# Altium footprint library Supernova Resistors.PcbLib: 45 footprints (part 2 of 3)
Each footprint in its own frame and in the unit in brackets; x right, y up, seen from the top. Pads: shape width x height; smd on the part's side, far side on the other; paste and mask are expansions set on the pad; w line width, h text height; cw(c..) or ccw(c..) is an arc to the next point about the centre after c.
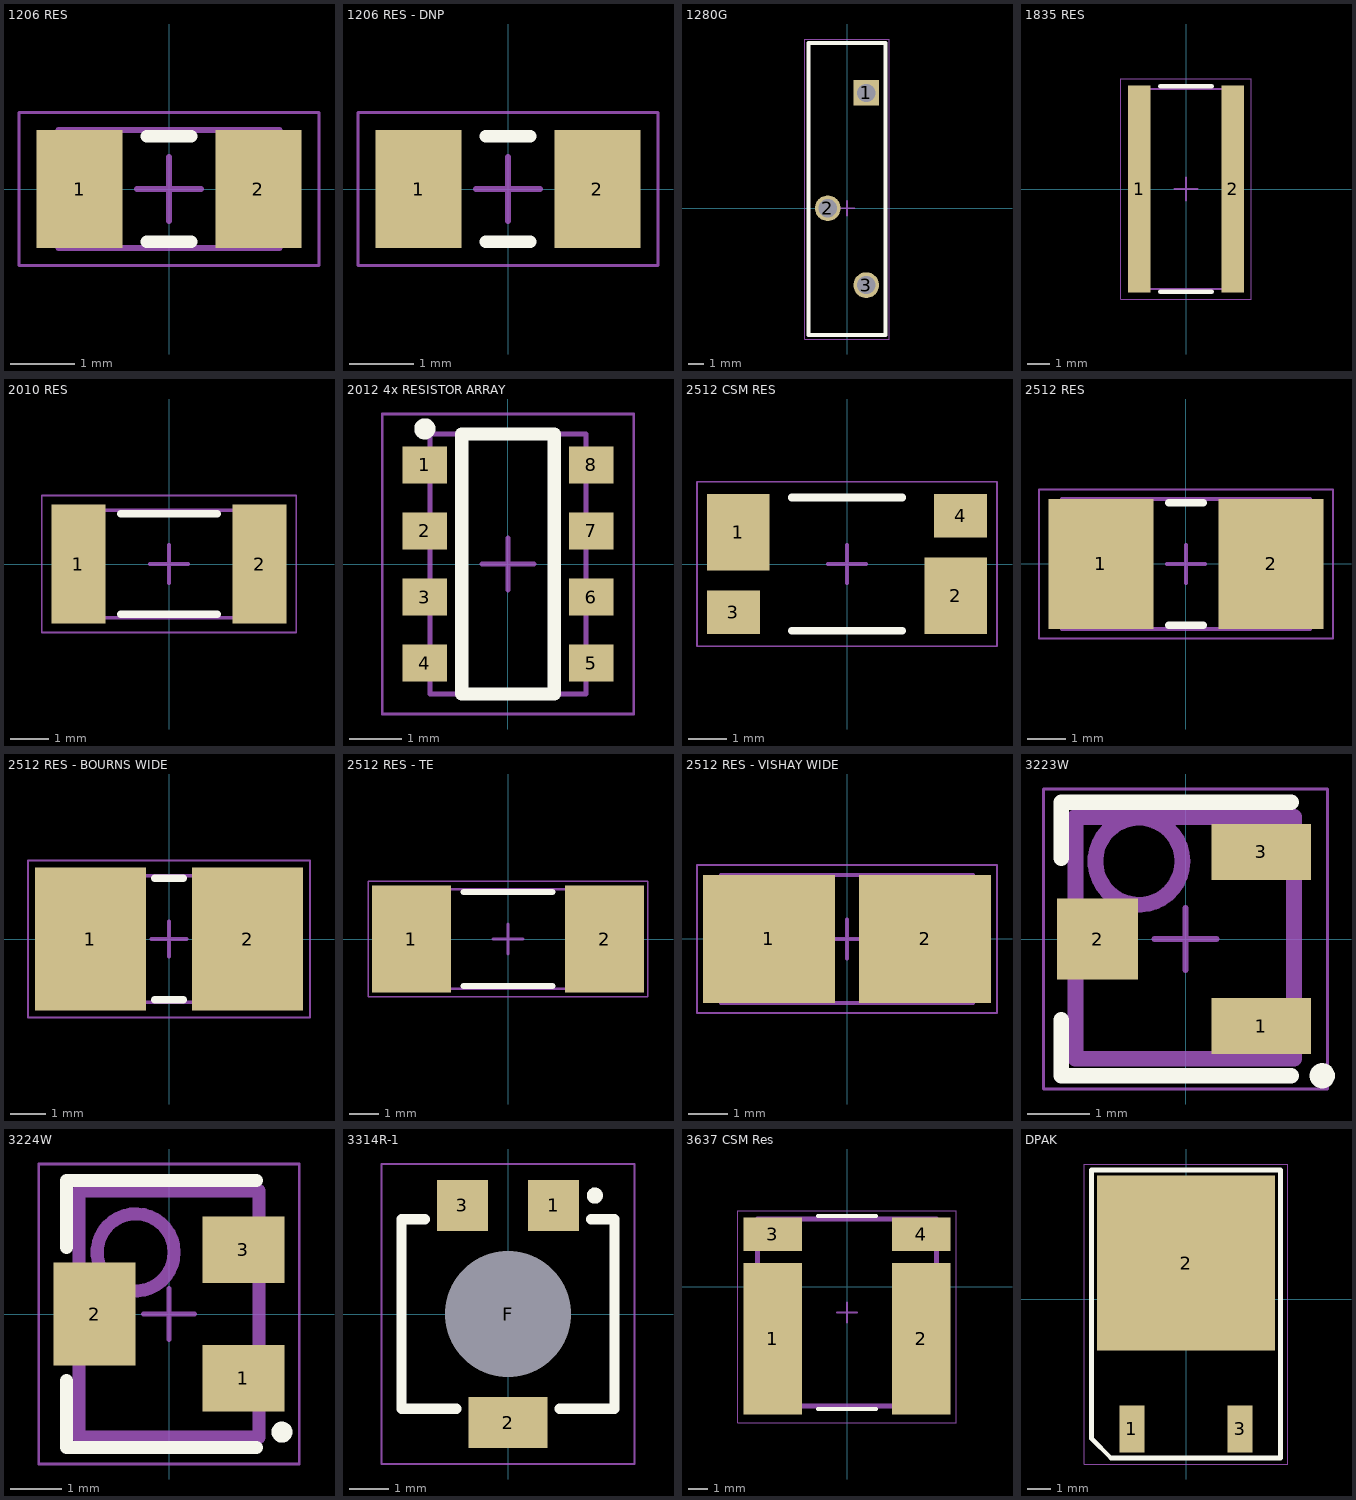
[diagram p1: the footprints below, top view; thin cyan lines are the x and y axes]

## 1206 RES [mm] "Chip Resistor, 2-Leads, Body 3.20x1.60mm, IPC Medium Density"
height 0.9
pads (2):
  rect 1.35x1.85 smd: 1(-1.4,0) 2(1.4,0)
Top Overlay:
  lines w0.2: -0.35,-0.825 0.35,-0.825 ; -0.35,0.825 0.35,0.825
Top 3D Body:
  lines w0.1: -1.725,-0.925 1.725,-0.925 1.725,0.925 -1.725,0.925 -1.725,-0.925
Top Courtyard (Mech15):
  lines w0.05: -2.35,-1.2 2.35,-1.2 2.35,1.2 -2.35,1.2 -2.35,-1.2
  lines w0.1: -0.5,0 0.5,0 ; 0,-0.5 0,0.5
3D body: height 0.9, standoff 0, extent 1.225,-0.925 1.725,0.925
3D body: height 0.9, standoff 0, extent -1.725,-0.925 -1.225,0.925
3D body: height 0.9, standoff 0, extent -1.225,-0.925 1.225,0.925

## 1206 RES - DNP [mm] "Chip Resistor, 2-Leads, Body 3.20x1.60mm, IPC Medium Density"
height 0.9
pads (2):
  rect 1.35x1.85 smd paste-2: 1(-1.4,0) 2(1.4,0)
Top Overlay:
  lines w0.2: -0.35,-0.825 0.35,-0.825 ; -0.35,0.825 0.35,0.825
Top Courtyard (Mech15):
  lines w0.05: -2.35,-1.2 -2.35,1.2 2.35,1.2 2.35,-1.2 -2.35,-1.2
  lines w0.1: -0.5,0 0.5,0 ; 0,-0.5 0,0.5

## 1280G [mm]
pads (3):
  rect 1.7x1.7 hole 1.2: 1(1.27,7.62)
  round 1.7 hole 1.2: 2(-1.27,0) 3(1.27,-5.08)
Top Overlay:
  lines w0.254: -2.54,-8.382 -2.54,10.922 2.54,10.922 2.54,-8.382 1.524,-8.382 -1.524,-8.382 -2.54,-8.382
Top Courtyard (Mech15):
  lines w0.05: -2.794,-8.636 2.794,-8.636 2.794,11.176 -2.794,11.176 -2.794,-8.636
  lines w0.1: -0.5,0 0.5,0 ; 0,-0.5 0,0.5
3D body: height 6.22, standoff 3.43, extent -1.386,-9.779 1.397,-8.255
3D body: height 5.08, standoff -5.08, extent -1.397,-0.5 -1.143,0.5
3D body: height 5.08, standoff -5.08, extent 1.143,-5.58 1.397,-4.58
3D body: height 5.08, standoff -5.08, extent 1.143,7.12 1.397,8.12
3D body: height 6.86, standoff 0, extent -2.413,-8.255 2.413,10.795

## 1835 RES [mm] "Chip Resistor, 2-Leads, Body 4.50x8.90mm, IPC Medium Density"
height 0.5
pads (2):
  rect 1x9.2 smd paste-1: 1(-2.075,0) 2(2.075,0)
Top Overlay:
  lines w0.2: -1.15,-4.575 1.15,-4.575 ; -1.15,4.575 1.15,4.575
Top Paste:
  rectangle: -2.475,0.1 -1.675,2.1
  rectangle: -2.475,2.3 -1.675,4.3
  rectangle: -2.475,-2.1 -1.675,-0.1
  rectangle: -2.475,-4.3 -1.675,-2.3
  region: 2.475,-0.1 1.675,-0.1 1.675,-2.1 2.475,-2.1
  region: 2.475,-2.3 1.675,-2.3 1.675,-4.3 2.475,-4.3
  region: 2.475,2.1 1.675,2.1 1.675,0.1 2.475,0.1
  region: 2.475,4.3 1.675,4.3 1.675,2.3 2.475,2.3
Top 3D Body:
  lines w0.1: -2.25,-4.45 -2.25,4.45 2.25,4.45 2.25,-4.45 -2.25,-4.45
Top Courtyard (Mech15):
  lines w0.05: -2.9,-4.9 2.9,-4.9 2.9,4.9 -2.9,4.9 -2.9,-4.9
  lines w0.1: -0.5,0 0.5,0 ; 0,-0.5 0,0.5
3D body: height 0.5, standoff 0.2, extent -2.25,-4.45 2.25,4.45
3D body: height 0.2, standoff 0, extent -2.25,-4.45 -1.55,4.45
3D body: height 0.2, standoff 0, extent 1.55,-4.45 2.25,4.45

## 2010 RES [mm] "Chip Resistor, 2-Leads, Body 5.08x2.54mm, IPC Medium Density"
height 0.89
pads (2):
  rect 1.4x3.08 smd paste-0.15: 1(-2.35,0) 2(2.35,0)
Top Overlay:
  lines w0.2: -1.25,-1.3 1.25,-1.3 ; -1.25,1.3 1.25,1.3
Top 3D Body:
  lines w0.1: -2.665,-1.395 2.665,-1.395 2.665,1.395 -2.665,1.395 -2.665,-1.395
Top Courtyard (Mech15):
  lines w0.05: -3.3,-1.778 3.3,-1.778 3.3,1.778 -3.3,1.778 -3.3,-1.778
  lines w0.1: -0.5,0 0.5,0 ; 0,-0.5 0,0.5
3D body: height 0.89, standoff 0, extent 2.155,-1.395 2.665,1.395
3D body: height 0.89, standoff 0, extent -2.665,-1.395 -2.155,1.395
3D body: height 0.8, standoff 0, extent -2.155,-1.395 2.155,1.395

## 2012 4x RESISTOR ARRAY [mm] "Chip Array, Flat, 8-Leads, Pitch 1.27mm,  Body 5.12x3.05mm,  IPC Medium Density"
height 0.7
pads (8):
  rect 0.86x0.71 smd: 1(-1.6,1.905) 2(-1.6,0.635) 3(-1.6,-0.635) 4(-1.6,-1.905) 5(1.6,-1.905) 6(1.6,-0.635) 7(1.6,0.635) 8(1.6,1.905)
Top Overlay:
  circle w0.203: c-1.6,2.6 r0.102
  lines w0.254: -0.889,-2.5 0.889,-2.5 0.889,2.5 -0.889,2.5 -0.889,-2.5
Top 3D Body:
  lines w0.1: -1.5,-2.5 1.5,-2.5 1.5,2.5 -1.5,2.5 -1.5,-2.5
Top Courtyard (Mech15):
  lines w0.05: -2.415,-2.885 2.415,-2.885 2.415,2.885 -2.415,2.885 -2.415,-2.885
  lines w0.1: -0.5,0 0.5,0 ; 0,-0.5 0,0.5
3D body: height 0.7, standoff 0, extent 1.1,1.585 1.5,2.235
3D body: height 0.7, standoff 0, extent 1.1,0.315 1.5,0.965
3D body: height 0.7, standoff 0, extent 1.1,-0.955 1.5,-0.305
3D body: height 0.7, standoff 0, extent 1.1,-2.225 1.5,-1.575
3D body: height 0.7, standoff 0, extent -1.5,-2.235 -1.1,-1.585
3D body: height 0.7, standoff 0, extent -1.5,-0.965 -1.1,-0.315
3D body: height 0.7, standoff 0, extent -1.5,0.305 -1.1,0.955
3D body: height 0.7, standoff 0, extent -1.5,1.575 -1.1,2.225
3D body: height 0.7, standoff 0, extent -1.1,-2.5 1.1,2.5

## 2512 CSM RES [mm]
pads (4):
  rect 1.65x2.01 smd paste-0.1: 1(-2.855,0.837) 2(2.855,-0.838)
  rect 1.39x1.15 smd paste-0.1: 3(-2.985,-1.268) 4(2.985,1.267)
Top Overlay:
  lines w0.2: -1.45,-1.755 1.45,-1.755 ; -1.45,1.745 1.45,1.745
Top Courtyard (Mech15):
  lines w0.05: -3.937,-2.159 3.937,-2.159 3.937,2.159 -3.937,2.159 -3.937,-2.159
  lines w0.1: -0.5,0 0.5,0 ; 0,-0.5 0,0.5
3D body: height 0.6, standoff 0, extent -3.175,-1.6 -2.8,1.6
3D body: height 0.6, standoff 0, extent 2.8,-1.6 3.175,1.6
3D body: height 0.7, standoff 0.1, extent -2.8,-1.6 2.8,1.6

## 2512 RES [mm] "Chip Resistor, 2-Leads, Body 6.30x3.20mm, IPC Medium Density"
height 0.8
pads (2):
  rect 2.75x3.4 smd paste-2: 1(-2.225,0) 2(2.225,0)
Top Overlay:
  lines w0.2: -0.45,-1.6 0.45,-1.6 ; -0.45,1.6 0.45,1.6
Top Paste:
  rectangle: 2.3,0.1 3.4,1.5
  region: 2.1,-0.1 1,-0.1 1,-1.5 2.1,-1.5
  region: 3.4,-0.1 2.3,-0.1 2.3,-1.5 3.4,-1.5
  rectangle: 1,0.1 2.1,1.5
  region: -1,-0.1 -2.1,-0.1 -2.1,-1.5 -1,-1.5
  rectangle: -3.4,0.1 -2.3,1.5
  rectangle: -2.1,0.1 -1,1.5
  region: -2.3,-0.1 -3.4,-0.1 -3.4,-1.5 -2.3,-1.5
Top 3D Body:
  lines w0.1: -3.25,-1.7 -3.25,1.7 3.25,1.7 3.25,-1.7 -3.25,-1.7
Top Courtyard (Mech15):
  lines w0.05: -3.85,-1.95 -3.85,1.95 3.85,1.95 3.85,-1.95 -3.85,-1.95
  lines w0.1: -0.5,0 0.5,0 ; 0,-0.5 0,0.5
3D body: height 0.8, standoff 0, extent -1.25,-1.7 1.25,1.7
3D body: height 0.8, standoff 0, extent -3.25,-1.7 -1.25,1.7
3D body: height 0.8, standoff 0, extent 1.25,-1.7 3.25,1.7

## 2512 RES - BOURNS WIDE [mm] "copied thru PCB back to PcbLib"
height 0.9
pads (2):
  rect 3.1x4 smd paste-2: 1(-2.2,0) 2(2.2,0)
Top Overlay:
  lines w0.2: -0.4,-1.7 0.4,-1.7 ; -0.4,1.7 0.4,1.7
Top Paste:
  region: -2.3,-0.1 -3.6,-0.1 -3.6,-1.7 -2.3,-1.7
  rectangle: -2.1,0.1 -0.8,1.7
  rectangle: -3.6,0.1 -2.3,1.7
  region: -0.8,-0.1 -2.1,-0.1 -2.1,-1.7 -0.8,-1.7
  rectangle: 0.8,0.1 2.1,1.7
  region: 3.6,-0.1 2.3,-0.1 2.3,-1.7 3.6,-1.7
  region: 2.1,-0.1 0.8,-0.1 0.8,-1.7 2.1,-1.7
  rectangle: 2.3,0.1 3.6,1.7
Top 3D Body:
  lines w0.1: -3.325,-1.775 -3.325,1.775 3.325,1.775 3.325,-1.775 -3.325,-1.775
Top Courtyard (Mech15):
  lines w0.05: -3.95,-2.2 -3.95,2.2 3.95,2.2 3.95,-2.2 -3.95,-2.2
  lines w0.1: -0.5,0 0.5,0 ; 0,-0.5 0,0.5
3D body: height 0.9, standoff 0, extent -1.325,-1.775 1.325,1.775
3D body: height 0.9, standoff 0, extent -3.325,-1.775 -1.325,1.775
3D body: height 0.9, standoff 0, extent 1.325,-1.775 3.325,1.775

## 2512 RES - TE [mm]
height 1.1
pads (2):
  rect 2.65x3.6 smd paste-2: 1(-3.25,0) 2(3.25,0)
Top Overlay:
  lines w0.2: -1.5,-1.575 1.5,-1.575 ; -1.5,1.575 1.5,1.575
Top Paste:
  region: -2,-0.1 -3.15,-0.1 -3.15,-1.7 -2,-1.7
  region: -3.35,-0.1 -4.5,-0.1 -4.5,-1.7 -3.35,-1.7
  rectangle: -3.15,0.1 -2,1.7
  rectangle: -4.5,0.1 -3.35,1.7
  region: 4.5,-0.1 3.35,-0.1 3.35,-1.7 4.5,-1.7
  region: 3.15,-0.1 2,-0.1 2,-1.7 3.15,-1.7
  rectangle: 3.35,0.1 4.5,1.7
  rectangle: 2,0.1 3.15,1.7
Top 3D Body:
  lines w0.1: -3.225,-1.675 -3.225,1.675 3.225,1.675 3.225,-1.675 -3.225,-1.675
Top Courtyard (Mech15):
  lines w0.05: -4.7,-1.95 -4.7,1.95 4.7,1.95 4.7,-1.95 -4.7,-1.95
  lines w0.1: -0.5,0 0.5,0 ; 0,-0.5 0,0.5
3D body: height 1.1, standoff 0, extent -2.2,-1.675 2.2,1.675
3D body: height 1.1, standoff 0, extent -3.2,-1.675 -2.2,1.675
3D body: height 1.1, standoff 0, extent 2.2,-1.675 3.2,1.675

## 2512 RES - VISHAY WIDE [mm] "Chip Resistor, 2-Leads, Body 6.35x3.15mm, IPC Medium Density"
height 0.64
pads (2):
  rect 3.38x3.28 smd paste-2 mask+0.025: 1(-2.002,0) 2(2.002,0)
Top Paste:
  rectangle: 2.1,0.1 3.4,1.5
  region: 1.9,0.1 1.9,1.5 0.6,1.5 0.6,0.1
  region: 1.9,-0.1 0.6,-0.1 0.6,-1.5 1.9,-1.5
  region: 2.1,-0.1 2.1,-1.5 3.4,-1.5 3.4,-0.1
  region: -2.1,0.1 -2.1,1.5 -3.4,1.5 -3.4,0.1
  rectangle: -1.9,0.1 -0.6,1.5
  region: -1.9,-0.1 -1.9,-1.5 -0.6,-1.5 -0.6,-0.1
  region: -2.1,-0.1 -3.4,-0.1 -3.4,-1.5 -2.1,-1.5
Top 3D Body:
  lines w0.1: -3.24,-1.64 -3.24,1.64 3.24,1.64 3.24,-1.64 -3.24,-1.64
Top Courtyard (Mech15):
  lines w0.05: -3.85,-1.9 -3.85,1.9 3.85,1.9 3.85,-1.9 -3.85,-1.9
  lines w0.1: -0.5,0 0.5,0 ; 0,-0.5 0,0.5
3D body: height 0.64, standoff 0, extent -0.37,-1.64 0.37,1.64
3D body: height 0.64, standoff 0, extent -3.24,-1.64 -0.37,1.64
3D body: height 0.64, standoff 0, extent 0.37,-1.64 3.24,1.64

## 3223W [mm]
pads (3):
  rect 1.6x0.9 smd: 1(1.215,-1.4) 3(1.215,1.4)
  rect 1.3x1.3 smd: 2(-1.415,0)
Top Overlay:
  circle w0.203: c2.2,-2.2 r0.102
  lines w0.254: -2,-1.3 -2,-2.2 1.7,-2.2 ; -2,1.3 -2,2.2 1.7,2.2
Top 3D Body:
  circle w0.254: c-0.75,1.25 r0.7
  lines w0.254: -1.768,-1.928 -1.768,1.961 1.747,1.961 1.747,-1.928 -1.768,-1.928
Top Courtyard (Mech15):
  lines w0.05: -2.286,-2.413 2.286,-2.413 2.286,2.413 -2.286,2.413 -2.286,-2.413
  lines w0.1: -0.5,0 0.5,0 ; 0,-0.5 0,0.5
3D body "3223W.stp": height 4.23, standoff 0.05, extent -1.768,-1.935 1.747,1.961

## 3224W [mm]
pads (3):
  rect 1.6x1.3 smd: 1(1.45,-1.25) 3(1.45,1.25)
  rect 1.6x2 smd: 2(-1.45,0)
Top Overlay:
  circle w0.203: c2.2,-2.3 r0.102
  lines w0.254: -2,-1.3 -2,-2.6 1.7,-2.6 ; -2,1.3 -2,2.6 1.7,2.6
Top 3D Body:
  circle w0.254: c-0.65,1.2 r0.75
  lines w0.254: -1.75,-2.4 1.75,-2.4 1.75,2.4 -1.75,2.4 -1.75,-2.4
Top Courtyard (Mech15):
  lines w0.05: -2.54,-2.921 -2.54,2.921 2.54,2.921 2.54,-2.921 -2.54,-2.921
  lines w0.1: -0.5,0 0.5,0 ; 0,-0.5 0,0.5
3D body "3224W.stp": height 5.29, standoff 0, extent -1.98,-2.408 1.975,2.418

## 3314R-1 [mm]
pads (4):
  rect 1.3x1.3 smd: 1(1.155,2.75) 3(-1.155,2.75)
  rect 2x1.3 smd: 2(0,-2.75)
  round 1.524 hole 3.2 unplated: F(0,0)
Top Overlay:
  circle w0.203: c2.2,3 r0.102
  lines w0.254: -2.1,2.4 -2.7,2.4 -2.7,-2.4 -1.3,-2.4 ; 1.3,-2.4 2.7,-2.4 2.7,2.4 2.1,2.4
Top Courtyard (Mech15):
  lines w0.05: -3.2,-3.8 -3.2,3.8 3.2,3.8 3.2,-3.8 -3.2,-3.8
  lines w0.1: -0.5,0 0.5,0 ; 0,-0.5 0,0.5
3D body "3314R-001.stp": height 3.15, standoff -0.01, extent -2.499,-3.099 2.5,3.099

## 3637 CSM Res [mm]
pads (4):
  rect 2.95x7.62 smd paste-2: 1(-3.735,-2.63) 2(3.735,-2.63)
  rect 2.95x1.68 smd paste-0.17: 3(-3.735,2.63) 4(3.735,2.63)
Top Overlay:
  lines w0.2: -1.45,-6.155 1.45,-6.155 ; -1.45,3.545 1.45,3.545
Top Paste:
  region: -2.6,-6.1 -2.6,-3.9 -4.9,-3.9 -4.9,-6.1
  region: -2.6,-3.7 -2.6,-1.5 -4.9,-1.5 -4.9,-3.7
  region: -2.6,-1.3 -2.6,0.9 -4.9,0.9 -4.9,-1.3
  region: 2.6,-3.9 2.6,-6.1 4.9,-6.1 4.9,-3.9
  region: 2.6,-1.5 2.6,-3.7 4.9,-3.7 4.9,-1.5
  region: 2.6,0.9 2.6,-1.3 4.9,-1.3 4.9,0.9
Top 3D Body:
  lines w0.254: -4.5,-6 4.5,-6 4.5,3.4 -4.5,3.4 -4.5,-6
Top Courtyard (Mech15):
  lines w0.05: -5.5,-6.858 5.5,-6.858 5.5,3.81 -5.5,3.81 -5.5,-6.858
  lines w0.1: -0.5,-1.3 0.5,-1.3 ; 0,-1.8 0,-0.8
3D body: height 0.7, standoff 0.1, extent -2.4,-6 2.4,3.4
3D body: height 0.6, standoff 0, extent -4.5,-6 -2.4,3.4
3D body: height 0.6, standoff 0, extent 2.4,-6 4.5,3.4

## DPAK [mm] "D2-PAK/TO-263-AB; 3 Leads (1 Cropped); Body 15.5 (inc. leads) x 10.5 mm (LxW max)"
height 4.69
pads (3):
  rect 1.05x2 smd: 1(-2.29,-5.5) 3(2.29,-5.5)
  rect 7.55x7.4 smd paste-5: 2(0,1.524)
Top Overlay:
  lines w0.2: -4,-5.906 -3.175,-6.731 4,-6.731 4,5.461 -4,5.461 -4,-5.906
Top Paste:
  region: -3.4,1.8 -0.3,1.8 -0.3,4.9 -3.4,4.9
  region: -3.4,-1.8 -0.3,-1.8 -0.3,1.3 -3.4,1.3
  region: 0.3,-1.8 3.4,-1.8 3.4,1.3 0.3,1.3
  region: 0.35,1.8 3.45,1.8 3.45,4.9 0.35,4.9
Top Courtyard (Mech15):
  lines w0.05: -4.3,-6.985 4.3,-6.985 4.3,5.715 -4.3,5.715 -4.3,-6.985
  lines w0.1: -0.5,0 0.5,0 ; 0,-0.5 0,0.5
3D body "DPAK_TO-252AA.step": height 2.37, standoff -0.03, extent -3.367,-5.082 3.367,5.018